# EAGLE library part BME280 (library custom-devices)
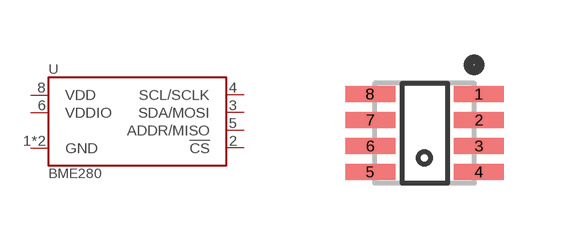
[diagram p41: symbol with the pads of BME280_LGA_MANUAL; footprint BME280_LGA_MANUAL]

Designator prefix U

## BME280_MANUAL (DIGI-KEY: 828-1063-1-ND; MOUSER: 262-BME280; TEMPERATURE: -40 to 85°C; VALUE: BME280)  [BME280_LGA_MANUAL]
1  GND  pwr
2  !CS
3  SDA/MOSI
4  SCL/SCLK
5  ADDR/MISO
6  VDDIO  pwr
7  GND  pwr
8  VDD  pwr

## Footprint BME280_LGA_MANUAL (pad centres in mm)
smd 1.25 x 0.4: 1 1.36,0.975; 2 1.36,0.325; 3 1.36,-0.325; 4 1.36,-0.975; 5 -1.36,-0.975; 6 -1.36,-0.325; 7 -1.36,0.325; 8 -1.36,0.975